# Altium integrated library Fuse_Bel_0ZCF0300BF2C_3A_hold.IntLib: 1 symbol
Pins are listed as number, name and electrical type; pins without a type are passive.

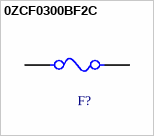
[diagram p0: symbol 0ZCF0300BF2C]

## 0ZCF0300BF2C
designator F?, comment 3A hold, 5.2 A trip  (value not drawn)
Resettable Fuses - PPTC 3A 24V PPTC 2920 SMD; Supplier 1: Mouser; Supplier 2: Digi-Key; Supplier Part Number 1: 530-0ZCF0300BF2C; Supplier Part Number 2: 507-2072-6-ND
footprint Bel_0ZCF_MFG
pins: 1, 2